# EAGLE library part DCP01B (library jason-test)
+/- V unregulated DC/DC converter Single supply version - Pin 7 is NC
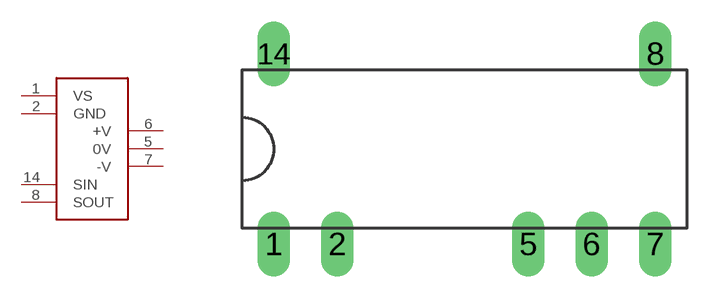
[diagram p37: symbol with the pads of DIL14-DCP01; footprint DIL14-DCP01]

Designator prefix -

## DCP01B  [DIL14-DCP01]
1  VS  in
2  GND  in
5  0V  out
6  +V  out
7  -V  out
8  SOUT  out
14  SIN  in

## Footprint DIL14-DCP01 (pad centres in mm)
drill 0.8 long: 1 -7.62,-3.81; 2 -5.08,-3.81; 5 2.54,-3.81; 6 5.08,-3.81; 7 7.62,-3.81; 8 7.62,3.81; 14 -7.62,3.81